# Altium footprint library SOP50P310X90-8N.PcbLib: 1 footprints
Each footprint in its own frame and in the unit in brackets; x right, y up, seen from the top. Pads: shape width x height; smd on the part's side, far side on the other; paste and mask are expansions set on the pad; w line width, h text height; cw(c..) or ccw(c..) is an arc to the next point about the centre after c.
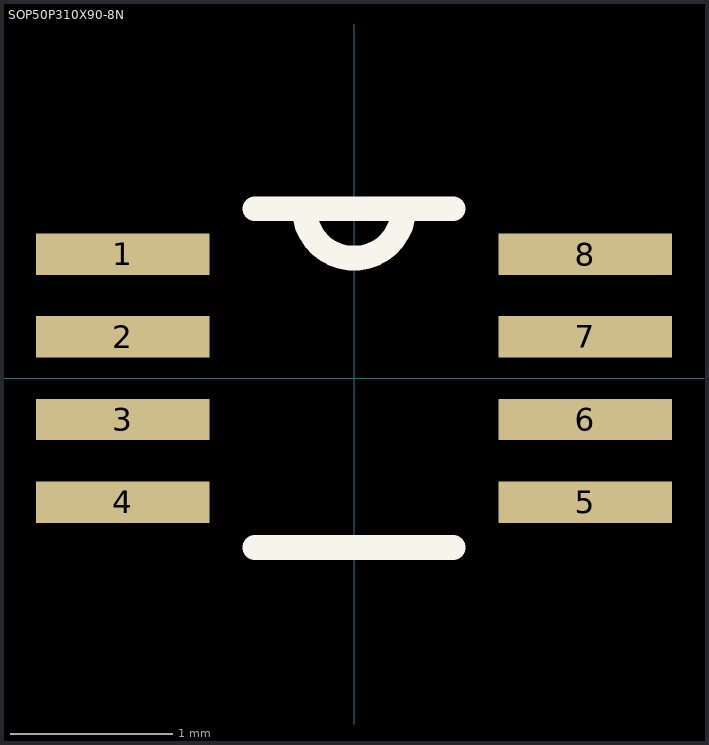
[diagram p0: the footprint, top view; thin cyan lines are the x and y axes]

## SOP50P310X90-8N [mil]
pads (8):
  rect 42x10 smd: 1(-56,30) 2(-56,10) 3(-56,-10) 4(-56,-30) 5(56,-30) 6(56,-10) 7(56,10) 8(56,30)
L26-Silk Screen Top (Multiple PADS layers...):
  lines w6: -24,-41 24,-41 ; -24,41 -12,41 ; 24,41 12,41 ; -12,41 12,41 ; -12,41 ccw(c0,41) 12,41